# EAGLE library part ROBBUS_CON (library untitled)
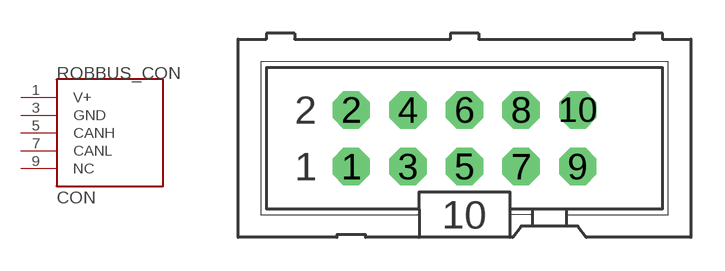
[diagram p0: symbol with the pads of ML10; footprint ML10]

Designator prefix CON

## ROBBUS_CON  [ML10]
1  V+  sup
2  V+  sup
3  GND  sup
4  GND  sup
5  CANH
6  CANH
7  CANL
8  CANL
9  NC  nc
10  NC  nc

## Footprint ML10 (pad centres in mm)
HARTING
drill 0.8 pad 1.676 octagon: 1 -5.08,-1.27; 2 -5.08,1.27; 3 -2.54,-1.27; 4 -2.54,1.27; 5 0,-1.27; 6 0,1.27; 7 2.54,-1.27; 8 2.54,1.27; 9 5.08,-1.27; 10 5.08,1.27